# EAGLE library part ASMB-TTF2-0B20B_RGB_LED (library ZHAW_BA)
RGB LED, ASMB-TTF2-0B20B, 2,1V Rot, 2,9V Grün, 2,9V Blau @ 20mA DigiKey: Pt.Nr: 516-3909-1-ND https://www.digikey.ch/product-detail/de/broadcom-limited/ASMB-TTF2-0B20B/516-3909-1-ND/7917028
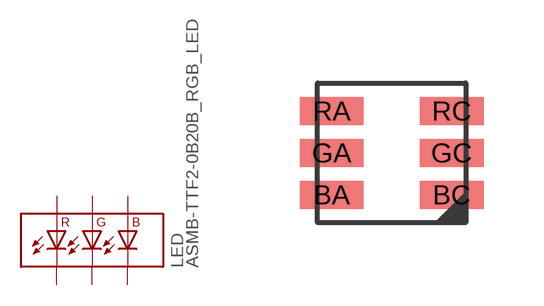
[diagram p13: symbol with the pads of ASMB-TTF2-0B20B_RGB_LED; footprint ASMB-TTF2-0B20B_RGB_LED]

Designator prefix LED

## ASMB-TTF2-0B20B_RGB_LED  [ASMB-TTF2-0B20B_RGB_LED]
BA  BA  pas
BC  BC  pas
GA  GA  pas
GC  GC  pas
RA  RA  pas
RC  RC  pas

## Footprint ASMB-TTF2-0B20B_RGB_LED (pad centres in mm)
smd 1.6 x 0.7: BA -1.5,-1.05; BC 1.5,-1.05; GA -1.5,0; GC 1.5,0; RA -1.5,1.05; RC 1.5,1.05